# Altium schematic symbol library Switch.SchLib: 5 symbols
Pins are listed as number, name and electrical type; pins without a type are passive.

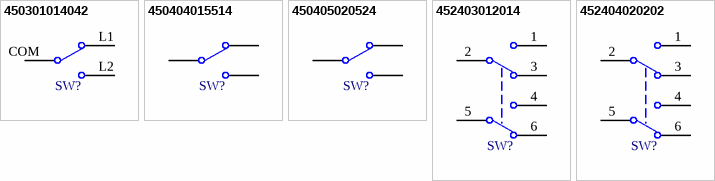
[diagram p0: symbols 450301014042 to 452404020202]

## 450301014042
designator SW?  (value not drawn)
WS-SLTV THT Mini Slide Switch, Opposite Side Connection, SPDT, 12VDC, 500mA, 800g; Manufacturer: Wurth Elektronik; ComponentLink2Description: Datasheet Link; ComponentLink2URL: https://www.we-online.com/redexpert/spec/450301014042?ad; Manufacturer Part Number: 450301014042; Category: Slide Switches; Match Code: WS-SLTV; Mount: Through Hole; Operating Temperature Max: 85°C; Operating Temperature Min: -40°C; Packaging: Bulk; Length: 10mm; Width: 2.5mm; Height: 6.4mm; Circuit: SPDT; Contact Material: Copper Alloy; Contact Plating: Gold; Operation Force: 800g; Rated Current: 500mA; Rated Voltage: 12VDC; Terminal Material: Copper Alloy; Terminal Plating: Gold; Supplier 1 Name: Mouser; Supplier 1 SN: 710-450301014042; Supplier 1 URL: https://www.mouser.com/ProductDetail/Wurth-Elektronik/450301014042?qs=wr8lucFkNMW0uepaR4R%2Fww%3D%3D; Supplier 2 Name: Digikey; Supplier 2 SN: 450301014042-ND; Supplier 2 URL: https://www.digikey.com/en/products/detail/w%C3%BCrth-elektronik/450301014042/5209104; Supplier 3 Name: Thegioiic; Supplier 3 SN: SS-12D00; Supplier 3 URL: https://www.thegioiic.com/ss-12d00-cong-tac-truot-3-chan-xuyen-lo-on-off-1p2t-0-5a
footprint 450301014042 (THT Mini Slide Switch, body 10x2.5mm)
pins: COM, L1, L2

## 450404015514
designator SW?  (value not drawn)
WS-SLSU Mini Slide Switch, Same Side Connection Side Push, SPDT, 5VDC, 300mA, 240g; Manufacturer: Wurth Elektronik; ComponentLink2Description: Datasheet Link; ComponentLink2URL: https://www.we-online.com/redexpert/spec/450404015514?ad; Manufacturer Part Number: 450404015514; Category: Slide Switches; Match Code: WS-SLSU; Mount: Surface Mount; Operating Temperature Max: 85°C; Operating Temperature Min: -40°C; Packaging: Tape and Reel; Length: 6.7mm; Width: 2.7mm; Height: 1.1mm; Circuit: SPDT; Contact Material: Copper Alloy; Contact Plating: Silver; Operation Force: 240g; Rated Current: 300mA; Rated Voltage: 5VDC; Terminal Material: Copper Alloy; Terminal Plating: Silver; Supplier 1 Name: Mouser; Supplier 1 SN: 710-450404015514; Supplier 1 URL: https://www.mouser.com/ProductDetail/Wurth-Elektronik/450404015514?qs=sPbYRqrBIVk21%2FxsES2IZA%3D%3D; Supplier 2 Name: Digikey; Supplier 2 SN: 732-13665-2-ND; Supplier 2 URL: https://www.digikey.com/en/products/detail/w%C3%BCrth-elektronik/450404015514/9950812; Supplier 3 Name: Thegioiic; Supplier 3 SN: MSK-12C02; Supplier 3 URL: https://www.thegioiic.com/msk-12c02-cong-tac-truot-7-chan-on-off-smd-chinh-ngang-1p2t-0-5a
footprint 450404015514 (Right angle Slide Switch)
pins: COM, L1, L2

## 450405020524
designator SW?  (value not drawn)
WS-SLSU SMT Mini Slide Switch Same Side Connection, SPDT, 5VDC, 300mA, 225g; Manufacturer: Wurth Elektronik; ComponentLink2Description: Datasheet Link; ComponentLink2URL: https://www.we-online.com/redexpert/spec/450405020524?ad; Manufacturer Part Number: 450405020524; Category: Slide Switches; Match Code: WS-SLSU; Mount: Surface Mount; Operating Temperature Max: 85°C; Operating Temperature Min: -40°C; Packaging: Tape and Reel; Length: 8.7mm; Width: 3mm; Height: 2mm; Circuit: SPDT; Contact Material: Copper Alloy; Contact Plating: Silver; Operation Force: 225g; Rated Current: 300mA; Rated Voltage: 5VDC; Terminal Material: Copper Alloy; Terminal Plating: Silver; Supplier 1 Name: Mouser; Supplier 1 SN: 710-450405020524; Supplier 1 URL: https://www.mouser.com/ProductDetail/Wurth-Elektronik/450405020524?qs=OlC7AqGiEDnl%252BU2cnq%252B3rQ%3D%3D; Supplier 2 Name: Digikey; Supplier 2 SN: 732-450405020524TR-ND; Supplier 2 URL: https://www.digikey.com/en/products/detail/w%C3%BCrth-elektronik/450405020524/11627297; Supplier 3 Name: Thegioiic; Supplier 3 SN: N/A; Supplier 3 URL: N/A
footprint 450405020524
pins: COM, L1, L2

## 452403012014
designator SW?  (value not drawn)
WS-SLSV SMT Mini Slide Switch, Same Side Connection, DPDT, 6VDC, 300mA, 350g; Manufacturer: Wurth Elektronik; ComponentLink2Description: Datasheet Link; ComponentLink2URL: https://www.we-online.com/redexpert/spec/452403012014?ad; Manufacturer Part Number: 452403012014; Category: Slide Switches; Match Code: WS-SLSV; Mount: Surface Mount; Operating Temperature Max: 85°C; Operating Temperature Min: -40°C; Packaging: Tape and Reel; Length: 7.7mm; Width: 5.5mm; Height: 3.3mm; Circuit: DPDT; Contact Material: Copper Alloy; Contact Plating: Silver; Operation Force: 350g; Rated Current: 300mA; Rated Voltage: 6VDC; Terminal Material: Copper Alloy; Terminal Plating: Silver; Supplier 1 Name: Mouser; Supplier 1 SN: 710-452403012014; Supplier 1 URL: https://www.mouser.com/ProductDetail/Wurth-Elektronik/452403012014?qs=DvsTirrhYfOi0QxHyAEO3w%3D%3D; Supplier 2 Name: Digikey; Supplier 2 SN: 732-10145-2-ND; Supplier 2 URL: https://www.digikey.com/en/products/detail/w%C3%BCrth-elektronik/452403012014/5956412; Supplier 3 Name: Thegioiic; Supplier 3 SN: N/A; Supplier 3 URL: N/A
footprint 452403012014
pins: 1, 2 COM, 3, 4, 5 COM, 6

## 452404020202
designator SW?  (value not drawn)
WS-SLTV THT Mini Slide Switch, Same Side Connection, DPDT, 6VDC, 300mA, 450g; Manufacturer: Wurth Elektronik; ComponentLink2Description: Datasheet Link; ComponentLink2URL: https://www.we-online.com/redexpert/spec/452404020202?ad; Manufacturer Part Number: 452404020202; Category: Slide Switches; Match Code: WS-SLTV; Mount: Through Hole; Operating Temperature Max: 85°C; Operating Temperature Min: -40°C; Packaging: Bulk; Length: 9mm; Width: 3.8mm; Height: 5.5mm; Circuit: DPDT; Contact Material: Copper Alloy; Contact Plating: Silver; Operation Force: 450g; Rated Current: 300mA; Rated Voltage: 6VDC; Terminal Material: Copper Alloy; Terminal Plating: Silver; Supplier 1 Name: Mouser; Supplier 1 SN: 710-452404020202; Supplier 1 URL: https://www.mouser.com/ProductDetail/Wurth-Elektronik/452404020202?qs=sPbYRqrBIVktTZStfNgfZw%3D%3D; Supplier 2 Name: Digikey; Supplier 2 SN: 732-13666-ND; Supplier 2 URL: https://www.digikey.com/en/products/detail/w%C3%BCrth-elektronik/452404020202/9950813; Supplier 3 Name: Thegioiic; Supplier 3 SN: MSS-22D18; Supplier 3 URL: https://www.thegioiic.com/mss-22d18-cong-tac-truot-6-chan-xuyen-lo-on-on-2p2t-0-5a
footprint 452404020202
pins: 1, 2 COM, 3, 4, 5 COM, 6